# EAGLE library part TLV2374ID (library TI-TLV2374ID)
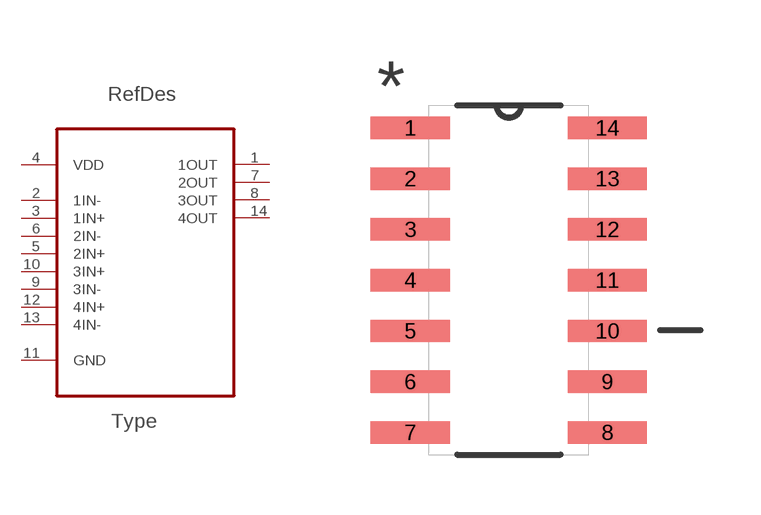
[diagram p0: symbol with the pads of SOIC127P600X175-14N; footprint SOIC127P600X175-14N]

Designator prefix U

## TLV2374ID (DESCRIPTION: OPERATIONAL AMPLIFIER WITH SHUTDOWN; MPN: TLV2374ID; OC_FARNELL: 8455040; OC_NEWARK: 72K9578; PACKAGE: SOIC-14; SUPPLIER: Texas Instruments)  [SOIC127P600X175-14N]
1  1OUT  out
2  1IN-  in
3  1IN+  in
4  VDD  pwr
5  2IN+  in
6  2IN-  in
7  2OUT  out
8  3OUT  out
9  3IN-  in
10  3IN+  in
11  GND  pas
12  4IN+  in
13  4IN-  in
14  4OUT  out

## Footprint SOIC127P600X175-14N (pad centres in mm)
smd 1.981 x 0.559: 1 -2.464,3.81; 2 -2.464,2.54; 3 -2.464,1.27; 4 -2.464,0; 5 -2.464,-1.27; 6 -2.464,-2.54; 7 -2.464,-3.81; 8 2.464,-3.81; 9 2.464,-2.54; 10 2.464,-1.27; 11 2.464,0; 12 2.464,1.27; 13 2.464,2.54; 14 2.464,3.81